# Altium integrated library Molex FFC - FPC Connectors (SMT).IntLib: 638 symbols (part 2 of 20)
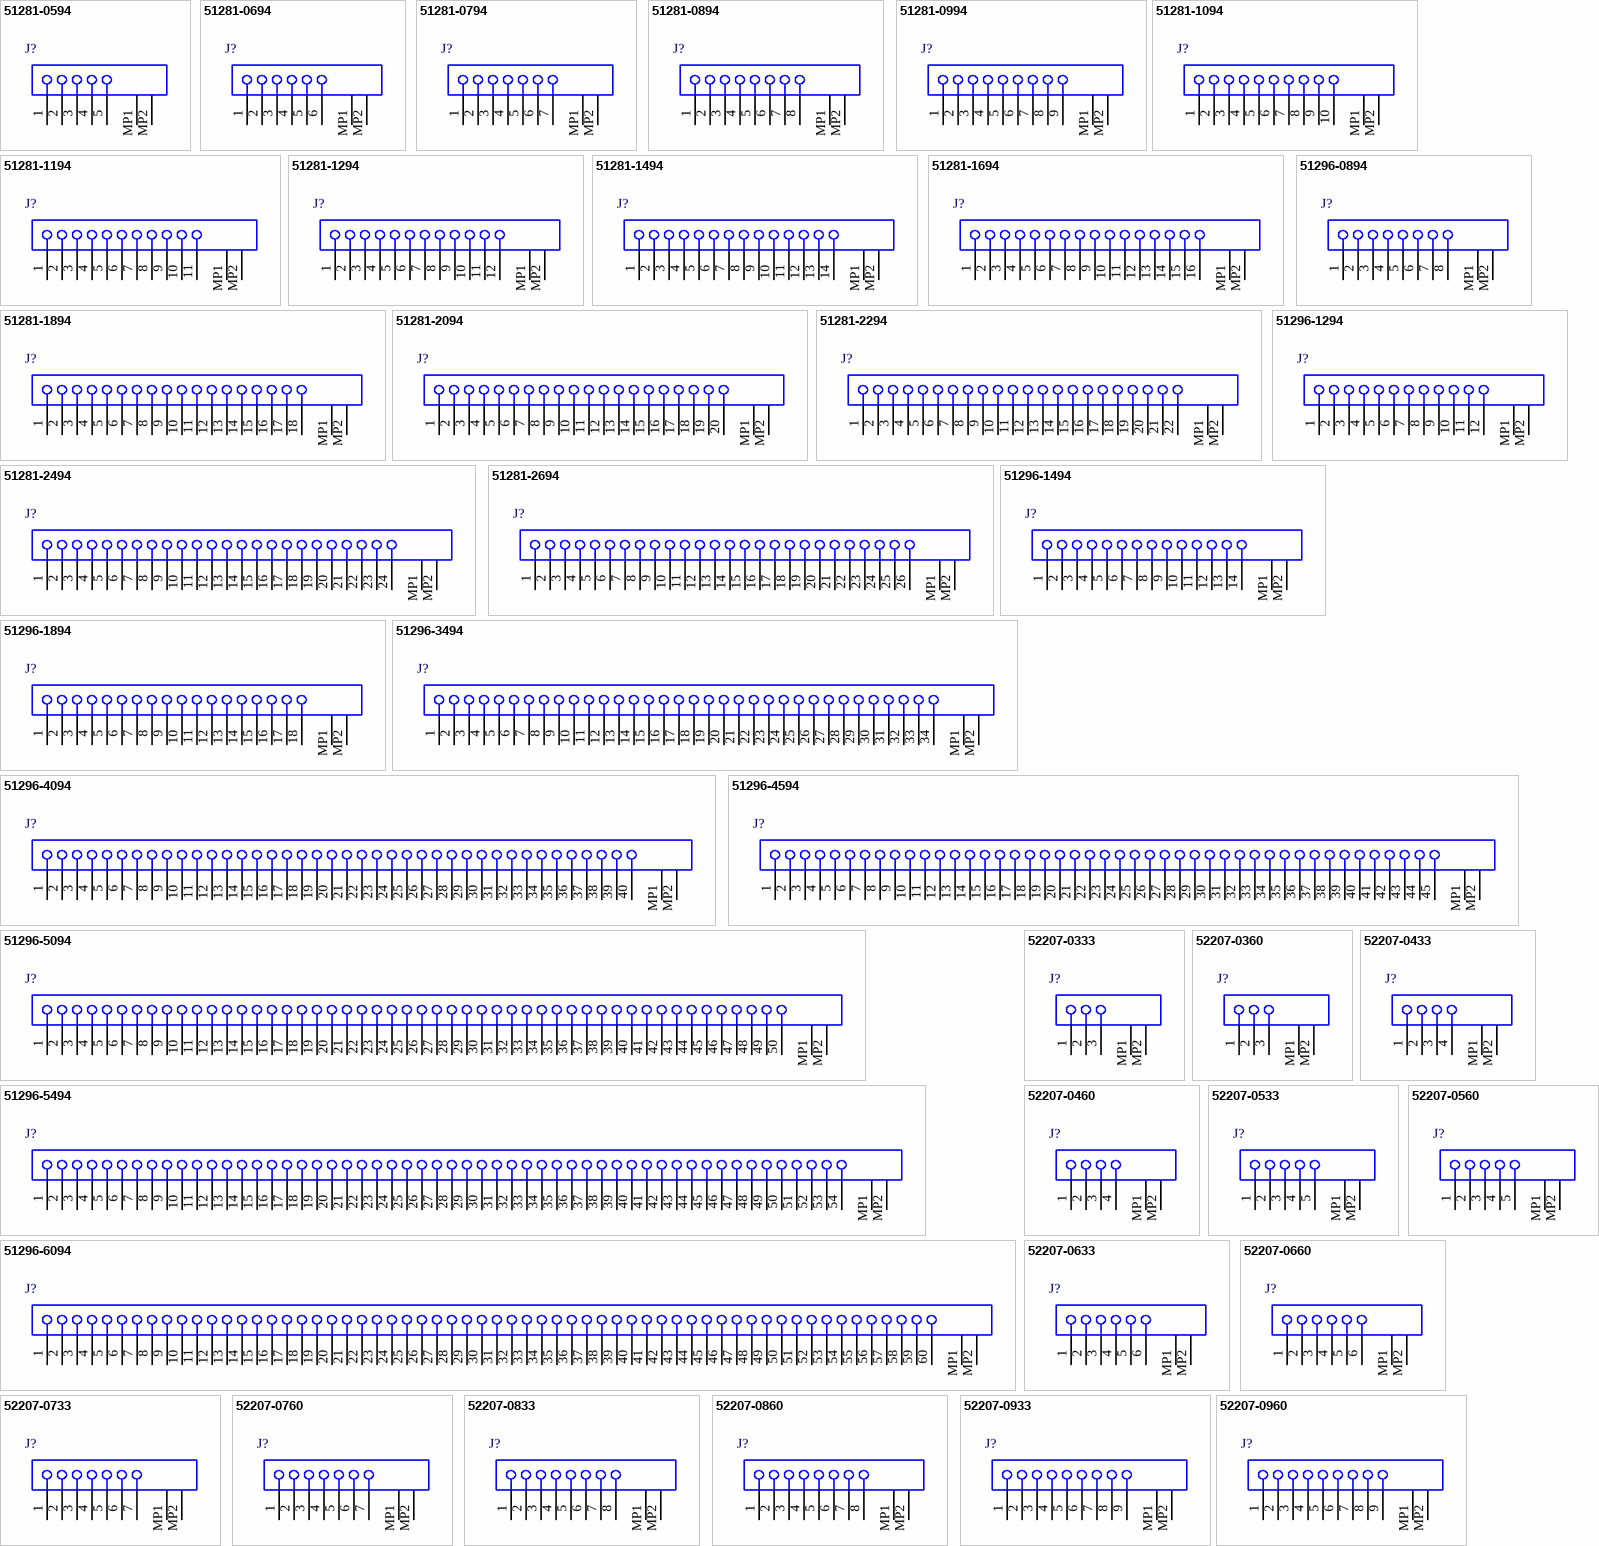
[diagram p22: symbols 51281-0594 to 52207-0960]

## 52207-0760
designator J?
1.0 mm Pitch Easy-On(TM) Type FPC Connector, 2.7 mm Mated Height, Right Angle, ZIF, SMT, Top Contact, 7 Circuits, -30 to 85 degC, ELV and RoHS Compliant, Tape and Reel; Manufacturer: Molex; PartNumber: 52207-0760; Circuits (Loaded): 7; Current (Max per Contact): 1A; Durability (mating cycles max): 30; Entry Angle: 90degrees Angle; Mated Height: 2.70mm; Material - Metal: Phosphor Bronze; Material - Plating Mating: Gold; Material - Plating Termination: Tin; PCB Locator: No; PCB Retention: Yes; Pitch - Mating Interface: 1.00mm; Voltage (Max): 125V; PackageVersion: Rev. F, 03/2007; PackageReference: 52207-0760; PackageDescription: 7-Lead FPC Connector, Pitch 1.0 mm; Contact Position: Top; Number of Rows: 1; Orientation: Right Angle; Packing: Tape and Reel; Pitch - Termination Interface: 1.00mm; Polarized to PCB: Yes; RoHS: TRUE; Stackable: No; Mounting Technology: Surface Mount; ComponentLink1Description: Manufacturer URL; ComponentLink1URL: http://www.molex.com/molex/index.jsp; ComponentLink2Description: Datasheet; ComponentLink2URL: http://www.molex.com/webdocs/datasheets/pdf/en-us/0522070760_FFC_FPC_CONNECTORS.pdf; ComponentLink3Description: Package Specification; ComponentLink3URL: http://www.molex.com/pdm_docs/sd/522070760_sd.pdf
footprint MOLX-52207-0760 (FPC Connector, 7-Leads, Right Angle, Pitch 1.0 mm, Mated Height 2.7 mm, SMT)
pins: 1, 2, 3, 4, 5, 6, 7, MP1, MP2

## 52207-0833
designator J?
1.0 mm Pitch Easy-On(TM) Type FPC Connector, 2.7 mm Mated Height, Right Angle, ZIF, SMT, Top Contact, 8 Circuits, -40 to 85 degC, ELV and RoHS Compliant, Tape and Reel; Manufacturer: Molex; PartNumber: 52207-0833; Circuits (Loaded): 8; Current (Max per Contact): 1A; Durability (mating cycles max): 30; Entry Angle: 90degrees Angle; Mated Height: 2.70mm; Material - Metal: Phosphor Bronze; Material - Plating Mating: Silver, Tin-Bismuth; PCB Locator: No; PCB Retention: Yes; Pitch - Mating Interface: 1.00mm; Voltage (Max): 125V; PackageVersion: Rev. B, 08/2013; PackageReference: 52207-0833; PackageDescription: 8-Lead FPC Connector, Pitch 1.0 mm; Contact Position: Top; Material - Plating Termination: Silver, Tin-Bismuth; Number of Rows: 1; Orientation: Right Angle; Packing: Tape and Reel; Pitch - Termination Interface: 1.00mm; Polarized to PCB: Yes; RoHS: TRUE; Stackable: No; Mounting Technology: Surface Mount; ComponentLink1Description: Manufacturer URL; ComponentLink1URL: http://www.molex.com/molex/index.jsp; ComponentLink2Description: Datasheet; ComponentLink2URL: http://www.molex.com/webdocs/datasheets/pdf/en-us/0522070833_FFC_FPC_CONNECTORS.pdf; ComponentLink3Description: Package Specification; ComponentLink3URL: http://www.molex.com/pdm_docs/sd/522070833_sd.pdf
footprint MOLX-52207-0833 (FPC Connector, 8-Leads, Right Angle, Pitch 1.0 mm, Mated Height 2.7 mm, SMT)
pins: 1, 2, 3, 4, 5, 6, 7, 8, MP1, MP2

## 52207-0860
designator J?
1.0 mm Pitch Easy-On(TM) Type FPC Connector, 2.7 mm Mated Height, Right Angle, ZIF, SMT, Top Contact, 8 Circuits, -30 to 85 degC, ELV and RoHS Compliant, Tape and Reel; Manufacturer: Molex; PartNumber: 52207-0860; Circuits (Loaded): 8; Current (Max per Contact): 1A; Durability (mating cycles max): 30; Entry Angle: 90degrees Angle; Mated Height: 2.70mm; Material - Metal: Phosphor Bronze; Material - Plating Mating: Gold; Material - Plating Termination: Tin; PCB Locator: No; PCB Retention: Yes; Pitch - Mating Interface: 1.00mm; Voltage (Max): 125V; PackageVersion: Rev. F, 03/2007; PackageReference: 52207-0860; PackageDescription: 8-Lead FPC Connector, Pitch 1.0 mm; Contact Position: Top; Number of Rows: 1; Orientation: Right Angle; Packing: Tape and Reel; Pitch - Termination Interface: 1.00mm; Polarized to PCB: Yes; RoHS: TRUE; Stackable: No; Mounting Technology: Surface Mount; ComponentLink1Description: Manufacturer URL; ComponentLink1URL: http://www.molex.com/molex/index.jsp; ComponentLink2Description: Datasheet; ComponentLink2URL: http://www.molex.com/webdocs/datasheets/pdf/en-us/0522070860_FFC_FPC_CONNECTORS.pdf; ComponentLink3Description: Package Specification; ComponentLink3URL: http://www.molex.com/pdm_docs/sd/522070860_sd.pdf
footprint MOLX-52207-0860 (FPC Connector, 8-Leads, Right Angle, Pitch 1.0 mm, Mated Height 2.7 mm, SMT)
pins: 1, 2, 3, 4, 5, 6, 7, 8, MP1, MP2

## 52207-0933
designator J?
1.0 mm Pitch Easy-On(TM) Type FPC Connector, 2.7 mm Mated Height, Right Angle, ZIF, SMT, Top Contact, 9 Circuits, -40 to 85 degC, ELV and RoHS Compliant, Tape and Reel; Manufacturer: Molex; PartNumber: 52207-0933; Circuits (Loaded): 9; Current (Max per Contact): 1A; Durability (mating cycles max): 30; Entry Angle: 90degrees Angle; Mated Height: 2.70mm; Material - Metal: Phosphor Bronze; Material - Plating Mating: Silver, Tin-Bismuth; PCB Locator: No; PCB Retention: Yes; Pitch - Mating Interface: 1.00mm; Voltage (Max): 125V; PackageVersion: Rev. B, 08/2013; PackageReference: 52207-0933; PackageDescription: 9-Lead FPC Connector, Pitch 1.0 mm; Contact Position: Top; Material - Plating Termination: Silver, Tin-Bismuth; Number of Rows: 1; Orientation: Right Angle; Packing: Tape and Reel; Pitch - Termination Interface: 1.00mm; Polarized to PCB: Yes; RoHS: TRUE; Stackable: No; Mounting Technology: Surface Mount; ComponentLink1Description: Manufacturer URL; ComponentLink1URL: http://www.molex.com/molex/index.jsp; ComponentLink2Description: Datasheet; ComponentLink2URL: http://www.molex.com/webdocs/datasheets/pdf/en-us/0522070933_FFC_FPC_CONNECTORS.pdf; ComponentLink3Description: Package Specification; ComponentLink3URL: http://www.molex.com/pdm_docs/sd/522070933_sd.pdf
footprint MOLX-52207-0933 (FPC Connector, 9-Leads, Right Angle, Pitch 1.0 mm, Mated Height 2.7 mm, SMT)
pins: 1, 2, 3, 4, 5, 6, 7, 8, 9, MP1, MP2

## 52207-0960
designator J?
1.0 mm Pitch Easy-On(TM) Type FPC Connector, 2.7 mm Mated Height, Right Angle, ZIF, SMT, Top Contact, 9 Circuits, -30 to 85 degC, ELV and RoHS Compliant, Tape and Reel; Manufacturer: Molex; PartNumber: 52207-0960; Circuits (Loaded): 9; Current (Max per Contact): 1A; Durability (mating cycles max): 30; Entry Angle: 90degrees Angle; Mated Height: 2.70mm; Material - Metal: Phosphor Bronze; Material - Plating Mating: Gold; Material - Plating Termination: Tin; PCB Locator: No; PCB Retention: Yes; Pitch - Mating Interface: 1.00mm; Voltage (Max): 125V; PackageVersion: Rev. F, 03/2007; PackageReference: 52207-0960; PackageDescription: 9-Lead FPC Connector, Pitch 1.0 mm; Contact Position: Top; Number of Rows: 1; Orientation: Right Angle; Packing: Tape and Reel; Pitch - Termination Interface: 1.00mm; Polarized to PCB: Yes; RoHS: TRUE; Stackable: No; Mounting Technology: Surface Mount; ComponentLink1Description: Manufacturer URL; ComponentLink1URL: http://www.molex.com/molex/index.jsp; ComponentLink2Description: Datasheet; ComponentLink2URL: http://www.molex.com/webdocs/datasheets/pdf/en-us/0522070960_FFC_FPC_CONNECTORS.pdf; ComponentLink3Description: Package Specification; ComponentLink3URL: http://www.molex.com/pdm_docs/sd/522070960_sd.pdf
footprint MOLX-52207-0960 (FPC Connector, 9-Leads, Right Angle, Pitch 1.0 mm, Mated Height 2.7 mm, SMT)
pins: 1, 2, 3, 4, 5, 6, 7, 8, 9, MP1, MP2

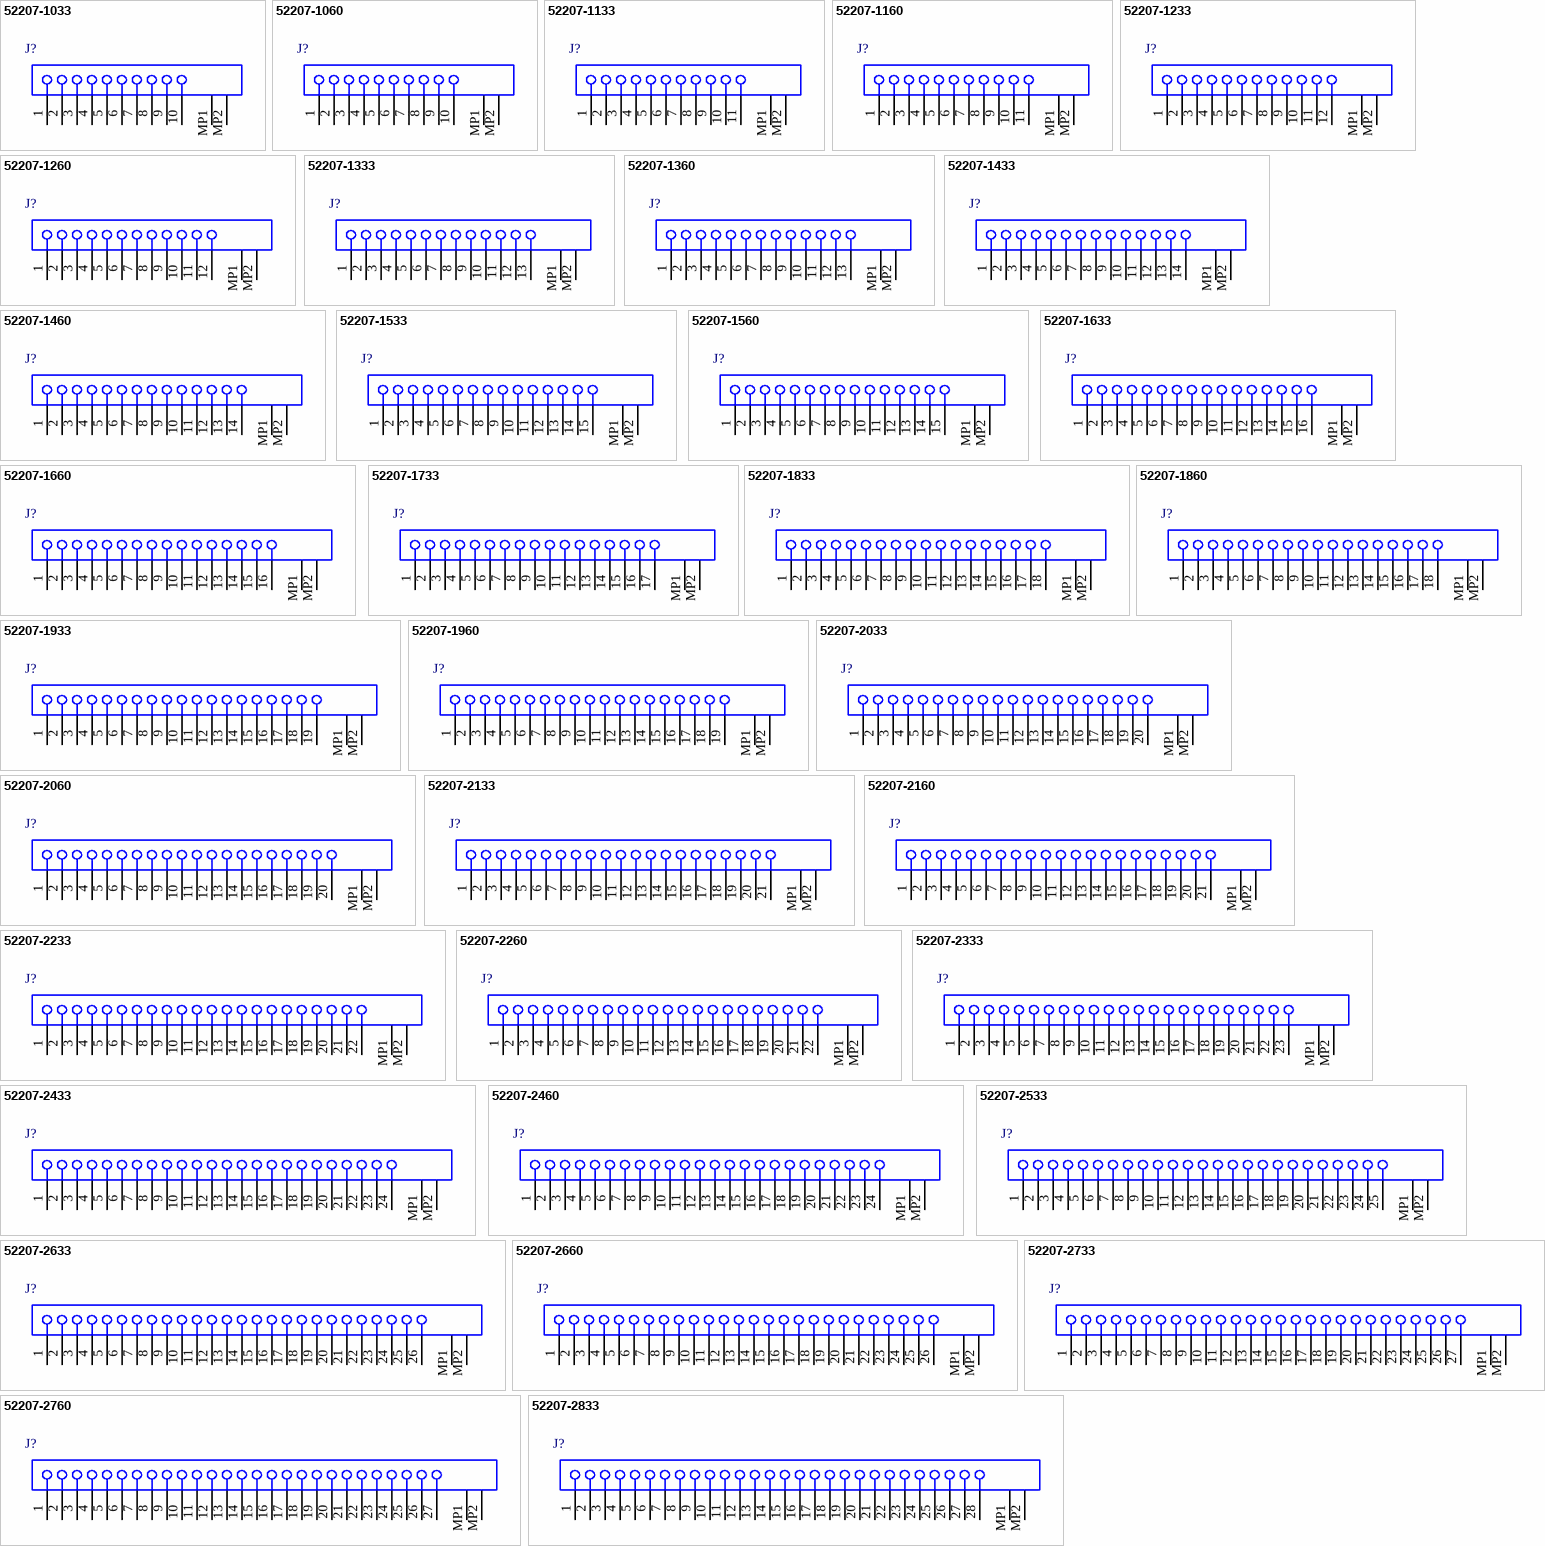
[diagram p1: symbols 52207-1033 to 52207-2833]

## 52207-1033
designator J?
1.0 mm Pitch Easy-On(TM) Type FPC Connector, 2.7 mm Mated Height, Right Angle, ZIF, SMT, Top Contact, 10 Circuits, -40 to 85 degC, ELV and RoHS Compliant, Tape and Reel; Manufacturer: Molex; PartNumber: 52207-1033; Circuits (Loaded): 10; Current (Max per Contact): 1A; Durability (mating cycles max): 30; Entry Angle: 90degrees Angle; Mated Height: 2.70mm; Material - Metal: Phosphor Bronze; Material - Plating Mating: Silver, Tin-Bismuth; PCB Locator: No; PCB Retention: Yes; Pitch - Mating Interface: 1.00mm; Voltage (Max): 125V; PackageVersion: Rev. B, 08/2013; PackageReference: 52207-1033; PackageDescription: 10-Lead FPC Connector, Pitch 1.0 mm; Contact Position: Top; Material - Plating Termination: Silver, Tin-Bismuth; Number of Rows: 1; Orientation: Right Angle; Packing: Tape and Reel; Pitch - Termination Interface: 1.00mm; Polarized to PCB: Yes; RoHS: TRUE; Stackable: No; Mounting Technology: Surface Mount; ComponentLink1Description: Manufacturer URL; ComponentLink1URL: http://www.molex.com/molex/index.jsp; ComponentLink2Description: Datasheet; ComponentLink2URL: http://www.molex.com/webdocs/datasheets/pdf/en-us/0522071033_FFC_FPC_CONNECTORS.pdf; ComponentLink3Description: Package Specification; ComponentLink3URL: http://www.molex.com/pdm_docs/sd/522071033_sd.pdf
footprint MOLX-52207-1033 (FPC Connector, 10-Leads, Right Angle, Pitch 1.0 mm, Mated Height 2.7 mm, SMT)
pins: 1, 2, 3, 4, 5, 6, 7, 8, 9, 10, MP1, MP2

## 52207-1060
designator J?
1.0 mm Pitch Easy-On(TM) Type FPC Connector, 2.7 mm Mated Height, Right Angle, ZIF, SMT, Top Contact, 10 Circuits, -30 to 85 degC, ELV and RoHS Compliant, Tape and Reel; Manufacturer: Molex; PartNumber: 52207-1060; Circuits (Loaded): 10; Current (Max per Contact): 1A; Durability (mating cycles max): 30; Entry Angle: 90degrees Angle; Mated Height: 2.70mm; Material - Metal: Phosphor Bronze; Material - Plating Mating: Gold; Material - Plating Termination: Tin; PCB Locator: No; PCB Retention: Yes; Pitch - Mating Interface: 1.00mm; Voltage (Max): 125V; PackageVersion: Rev. F, 03/2007; PackageReference: 52207-1060; PackageDescription: 10-Lead FPC Connector, Pitch 1.0 mm; Contact Position: Top; Number of Rows: 1; Orientation: Right Angle; Packing: Tape and Reel; Pitch - Termination Interface: 1.00mm; Polarized to PCB: Yes; RoHS: TRUE; Stackable: No; Mounting Technology: Surface Mount; ComponentLink1Description: Manufacturer URL; ComponentLink1URL: http://www.molex.com/molex/index.jsp; ComponentLink2Description: Datasheet; ComponentLink2URL: http://www.molex.com/webdocs/datasheets/pdf/en-us/0522071060_FFC_FPC_CONNECTORS.pdf; ComponentLink3Description: Package Specification; ComponentLink3URL: http://www.molex.com/pdm_docs/sd/522071060_sd.pdf
footprint MOLX-52207-1060 (FPC Connector, 10-Leads, Right Angle, Pitch 1.0 mm, Mated Height 2.7 mm, SMT)
pins: 1, 2, 3, 4, 5, 6, 7, 8, 9, 10, MP1, MP2

## 52207-1133
designator J?
1.0 mm Pitch Easy-On(TM) Type FPC Connector, 2.7 mm Mated Height, Right Angle, ZIF, SMT, Top Contact, 11 Circuits, -40 to 85 degC, ELV and RoHS Compliant, Tape and Reel; Manufacturer: Molex; PartNumber: 52207-1133; Circuits (Loaded): 11; Current (Max per Contact): 1A; Durability (mating cycles max): 30; Entry Angle: 90degrees Angle; Mated Height: 2.70mm; Material - Metal: Phosphor Bronze; Material - Plating Mating: Silver, Tin-Bismuth; PCB Locator: No; PCB Retention: Yes; Pitch - Mating Interface: 1.00mm; Voltage (Max): 125V; PackageVersion: Rev. B, 08/2013; PackageReference: 52207-1133; PackageDescription: 11-Lead FPC Connector, Pitch 1.0 mm; Contact Position: Top; Material - Plating Termination: Silver, Tin-Bismuth; Number of Rows: 1; Orientation: Right Angle; Packing: Tape and Reel; Pitch - Termination Interface: 1.00mm; Polarized to PCB: Yes; RoHS: TRUE; Stackable: No; Mounting Technology: Surface Mount; ComponentLink1Description: Manufacturer URL; ComponentLink1URL: http://www.molex.com/molex/index.jsp; ComponentLink2Description: Datasheet; ComponentLink2URL: http://www.molex.com/webdocs/datasheets/pdf/en-us/0522071133_FFC_FPC_CONNECTORS.pdf; ComponentLink3Description: Package Specification; ComponentLink3URL: http://www.molex.com/pdm_docs/sd/522071133_sd.pdf
footprint MOLX-52207-1133 (FPC Connector, 11-Leads, Right Angle, Pitch 1.0 mm, Mated Height 2.7 mm, SMT)
pins: 1, 2, 3, 4, 5, 6, 7, 8, 9, 10, 11, MP1, MP2

## 52207-1160
designator J?
1.0 mm Pitch Easy-On(TM) Type FPC Connector, 2.7 mm Mated Height, Right Angle, ZIF, SMT, Top Contact, 11 Circuits, -30 to 85 degC, ELV and RoHS Compliant, Tape and Reel; Manufacturer: Molex; PartNumber: 52207-1160; Circuits (Loaded): 11; Current (Max per Contact): 1A; Durability (mating cycles max): 30; Entry Angle: 90degrees Angle; Mated Height: 2.70mm; Material - Metal: Phosphor Bronze; Material - Plating Mating: Gold; Material - Plating Termination: Tin; PCB Locator: No; PCB Retention: Yes; Pitch - Mating Interface: 1.00mm; Voltage (Max): 125V; PackageVersion: Rev. F, 03/2007; PackageReference: 52207-1160; PackageDescription: 11-Lead FPC Connector, Pitch 1.0 mm; Contact Position: Top; Number of Rows: 1; Orientation: Right Angle; Packing: Tape and Reel; Pitch - Termination Interface: 1.00mm; Polarized to PCB: Yes; RoHS: TRUE; Stackable: No; Mounting Technology: Surface Mount; ComponentLink1Description: Manufacturer URL; ComponentLink1URL: http://www.molex.com/molex/index.jsp; ComponentLink2Description: Datasheet; ComponentLink2URL: http://www.molex.com/webdocs/datasheets/pdf/en-us/0522071160_FFC_FPC_CONNECTORS.pdf; ComponentLink3Description: Package Specification; ComponentLink3URL: http://www.molex.com/pdm_docs/sd/522071160_sd.pdf
footprint MOLX-52207-1160 (FPC Connector, 11-Leads, Right Angle, Pitch 1.0 mm, Mated Height 2.7 mm, SMT)
pins: 1, 2, 3, 4, 5, 6, 7, 8, 9, 10, 11, MP1, MP2

## 52207-1233
designator J?
1.0 mm Pitch Easy-On(TM) Type FPC Connector, 2.7 mm Mated Height, Right Angle, ZIF, SMT, Top Contact, 12 Circuits, -40 to 85 degC, ELV and RoHS Compliant, Tape and Reel; Manufacturer: Molex; PartNumber: 52207-1233; Circuits (Loaded): 12; Current (Max per Contact): 1A; Durability (mating cycles max): 30; Entry Angle: 90degrees Angle; Mated Height: 2.70mm; Material - Metal: Phosphor Bronze; Material - Plating Mating: Silver, Tin-Bismuth; PCB Locator: No; PCB Retention: Yes; Pitch - Mating Interface: 1.00mm; Voltage (Max): 125V; PackageVersion: Rev. B, 08/2013; PackageReference: 52207-1233; PackageDescription: 12-Lead FPC Connector, Pitch 1.0 mm; Contact Position: Top; Material - Plating Termination: Silver, Tin-Bismuth; Number of Rows: 1; Orientation: Right Angle; Packing: Tape and Reel; Pitch - Termination Interface: 1.00mm; Polarized to PCB: Yes; RoHS: TRUE; Stackable: No; Mounting Technology: Surface Mount; ComponentLink1Description: Manufacturer URL; ComponentLink1URL: http://www.molex.com/molex/index.jsp; ComponentLink2Description: Datasheet; ComponentLink2URL: http://www.molex.com/webdocs/datasheets/pdf/en-us/0522071233_FFC_FPC_CONNECTORS.pdf; ComponentLink3Description: Package Specification; ComponentLink3URL: http://www.molex.com/pdm_docs/sd/522071233_sd.pdf
footprint MOLX-52207-1233 (FPC Connector, 12-Leads, Right Angle, Pitch 1.0 mm, Mated Height 2.7 mm, SMT)
pins: 1, 2, 3, 4, 5, 6, 7, 8, 9, 10, 11, 12, MP1, MP2

## 52207-1260
designator J?
1.0 mm Pitch Easy-On(TM) Type FPC Connector, 2.7 mm Mated Height, Right Angle, ZIF, SMT, Top Contact, 12 Circuits, -30 to 85 degC, ELV and RoHS Compliant, Tape and Reel; Manufacturer: Molex; PartNumber: 52207-1260; Circuits (Loaded): 12; Current (Max per Contact): 1A; Durability (mating cycles max): 30; Entry Angle: 90degrees Angle; Mated Height: 2.70mm; Material - Metal: Phosphor Bronze; Material - Plating Mating: Gold; Material - Plating Termination: Tin; PCB Locator: No; PCB Retention: Yes; Pitch - Mating Interface: 1.00mm; Voltage (Max): 125V; PackageVersion: Rev. F, 03/2007; PackageReference: 52207-1260; PackageDescription: 12-Lead FPC Connector, Pitch 1.0 mm; Contact Position: Top; Number of Rows: 1; Orientation: Right Angle; Packing: Tape and Reel; Pitch - Termination Interface: 1.00mm; Polarized to PCB: Yes; RoHS: TRUE; Stackable: No; Mounting Technology: Surface Mount; ComponentLink1Description: Manufacturer URL; ComponentLink1URL: http://www.molex.com/molex/index.jsp; ComponentLink2Description: Datasheet; ComponentLink2URL: http://www.molex.com/webdocs/datasheets/pdf/en-us/0522071260_FFC_FPC_CONNECTORS.pdf; ComponentLink3Description: Package Specification; ComponentLink3URL: http://www.molex.com/pdm_docs/sd/522071260_sd.pdf
footprint MOLX-52207-1260 (FPC Connector, 12-Leads, Right Angle, Pitch 1.0 mm, Mated Height 2.7 mm, SMT)
pins: 1, 2, 3, 4, 5, 6, 7, 8, 9, 10, 11, 12, MP1, MP2

## 52207-1333
designator J?
1.0 mm Pitch Easy-On(TM) Type FPC Connector, 2.7 mm Mated Height, Right Angle, ZIF, SMT, Top Contact, 13 Circuits, -40 to 85 degC, ELV and RoHS Compliant, Tape and Reel; Manufacturer: Molex; PartNumber: 52207-1333; Circuits (Loaded): 13; Current (Max per Contact): 1A; Durability (mating cycles max): 30; Entry Angle: 90degrees Angle; Mated Height: 2.70mm; Material - Metal: Phosphor Bronze; Material - Plating Mating: Silver, Tin-Bismuth; PCB Locator: No; PCB Retention: Yes; Pitch - Mating Interface: 1.00mm; Voltage (Max): 125V; PackageVersion: Rev. B, 08/2013; PackageReference: 52207-1333; PackageDescription: 13-Lead FPC Connector, Pitch 1.0 mm; Contact Position: Top; Material - Plating Termination: Silver, Tin-Bismuth; Number of Rows: 1; Orientation: Right Angle; Packing: Tape and Reel; Pitch - Termination Interface: 1.00mm; Polarized to PCB: Yes; RoHS: TRUE; Stackable: No; Mounting Technology: Surface Mount; ComponentLink1Description: Manufacturer URL; ComponentLink1URL: http://www.molex.com/molex/index.jsp; ComponentLink2Description: Datasheet; ComponentLink2URL: http://www.molex.com/webdocs/datasheets/pdf/en-us/0522071333_FFC_FPC_CONNECTORS.pdf; ComponentLink3Description: Package Specification; ComponentLink3URL: http://www.molex.com/pdm_docs/sd/522071333_sd.pdf
footprint MOLX-52207-1333 (FPC Connector, 13-Leads, Right Angle, Pitch 1.0 mm, Mated Height 2.7 mm, SMT)
pins: 1, 2, 3, 4, 5, 6, 7, 8, 9, 10, 11, 12, 13, MP1, MP2

## 52207-1360
designator J?
1.0 mm Pitch Easy-On(TM) Type FPC Connector, 2.7 mm Mated Height, Right Angle, ZIF, SMT, Top Contact, 13 Circuits, -30 to 85 degC, ELV and RoHS Compliant, Tape and Reel; Manufacturer: Molex; PartNumber: 52207-1360; Circuits (Loaded): 13; Current (Max per Contact): 1A; Durability (mating cycles max): 30; Entry Angle: 90degrees Angle; Mated Height: 2.70mm; Material - Metal: Phosphor Bronze; Material - Plating Mating: Gold; Material - Plating Termination: Tin; PCB Locator: No; PCB Retention: Yes; Pitch - Mating Interface: 1.00mm; Voltage (Max): 125V; PackageVersion: Rev. F, 03/2007; PackageReference: 52207-1360; PackageDescription: 13-Lead FPC Connector, Pitch 1.0 mm; Contact Position: Top; Number of Rows: 1; Orientation: Right Angle; Packing: Tape and Reel; Pitch - Termination Interface: 1.00mm; Polarized to PCB: Yes; RoHS: TRUE; Stackable: No; Mounting Technology: Surface Mount; ComponentLink1Description: Manufacturer URL; ComponentLink1URL: http://www.molex.com/molex/index.jsp; ComponentLink2Description: Datasheet; ComponentLink2URL: http://www.molex.com/webdocs/datasheets/pdf/en-us/0522071360_FFC_FPC_CONNECTORS.pdf; ComponentLink3Description: Package Specification; ComponentLink3URL: http://www.molex.com/pdm_docs/sd/522071360_sd.pdf
footprint MOLX-52207-1360 (FPC Connector, 13-Leads, Right Angle, Pitch 1.0 mm, Mated Height 2.7 mm, SMT)
pins: 1, 2, 3, 4, 5, 6, 7, 8, 9, 10, 11, 12, 13, MP1, MP2

## 52207-1433
designator J?
1.0 mm Pitch Easy-On(TM) Type FPC Connector, 2.7 mm Mated Height, Right Angle, ZIF, SMT, Top Contact, 14 Circuits, -40 to 85 degC, ELV and RoHS Compliant, Tape and Reel; Manufacturer: Molex; PartNumber: 52207-1433; Circuits (Loaded): 14; Current (Max per Contact): 1A; Durability (mating cycles max): 30; Entry Angle: 90degrees Angle; Mated Height: 2.70mm; Material - Metal: Phosphor Bronze; Material - Plating Mating: Silver, Tin-Bismuth; PCB Locator: No; PCB Retention: Yes; Pitch - Mating Interface: 1.00mm; Voltage (Max): 125V; PackageVersion: Rev. B, 08/2013; PackageReference: 52207-1433; PackageDescription: 14-Lead FPC Connector, Pitch 1.0 mm; Contact Position: Top; Material - Plating Termination: Silver, Tin-Bismuth; Number of Rows: 1; Orientation: Right Angle; Packing: Tape and Reel; Pitch - Termination Interface: 1.00mm; Polarized to PCB: Yes; RoHS: TRUE; Stackable: No; Mounting Technology: Surface Mount; ComponentLink1Description: Manufacturer URL; ComponentLink1URL: http://www.molex.com/molex/index.jsp; ComponentLink2Description: Datasheet; ComponentLink2URL: http://www.molex.com/webdocs/datasheets/pdf/en-us/0522071433_FFC_FPC_CONNECTORS.pdf; ComponentLink3Description: Package Specification; ComponentLink3URL: http://www.molex.com/pdm_docs/sd/522071433_sd.pdf
footprint MOLX-52207-1433 (FPC Connector, 14-Leads, Right Angle, Pitch 1.0 mm, Mated Height 2.7 mm, SMT)
pins: 1, 2, 3, 4, 5, 6, 7, 8, 9, 10, 11, 12, 13, 14, MP1, MP2

## 52207-1460
designator J?
1.0 mm Pitch Easy-On(TM) Type FPC Connector, 2.7 mm Mated Height, Right Angle, ZIF, SMT, Top Contact, 14 Circuits, -30 to 85 degC, ELV and RoHS Compliant, Tape and Reel; Manufacturer: Molex; PartNumber: 52207-1460; Circuits (Loaded): 14; Current (Max per Contact): 1A; Durability (mating cycles max): 30; Entry Angle: 90degrees Angle; Mated Height: 2.70mm; Material - Metal: Phosphor Bronze; Material - Plating Mating: Gold; Material - Plating Termination: Tin; PCB Locator: No; PCB Retention: Yes; Pitch - Mating Interface: 1.00mm; Voltage (Max): 125V; PackageVersion: Rev. F, 03/2007; PackageReference: 52207-1460; PackageDescription: 14-Lead FPC Connector, Pitch 1.0 mm; Contact Position: Top; Number of Rows: 1; Orientation: Right Angle; Packing: Tape and Reel; Pitch - Termination Interface: 1.00mm; Polarized to PCB: Yes; RoHS: TRUE; Stackable: No; Mounting Technology: Surface Mount; ComponentLink1Description: Manufacturer URL; ComponentLink1URL: http://www.molex.com/molex/index.jsp; ComponentLink2Description: Datasheet; ComponentLink2URL: http://www.molex.com/webdocs/datasheets/pdf/en-us/0522071460_FFC_FPC_CONNECTORS.pdf; ComponentLink3Description: Package Specification; ComponentLink3URL: http://www.molex.com/pdm_docs/sd/522071460_sd.pdf
footprint MOLX-52207-1460 (FPC Connector, 14-Leads, Right Angle, Pitch 1.0 mm, Mated Height 2.7 mm, SMT)
pins: 1, 2, 3, 4, 5, 6, 7, 8, 9, 10, 11, 12, 13, 14, MP1, MP2

## 52207-1533
designator J?
1.0 mm Pitch Easy-On(TM) Type FPC Connector, 2.7 mm Mated Height, Right Angle, ZIF, SMT, Top Contact, 15 Circuits, -40 to 85 degC, ELV and RoHS Compliant, Tape and Reel; Manufacturer: Molex; PartNumber: 52207-1533; Circuits (Loaded): 15; Current (Max per Contact): 1A; Durability (mating cycles max): 30; Entry Angle: 90degrees Angle; Mated Height: 2.70mm; Material - Metal: Phosphor Bronze; Material - Plating Mating: Silver, Tin-Bismuth; PCB Locator: No; PCB Retention: Yes; Pitch - Mating Interface: 1.00mm; Voltage (Max): 125V; PackageVersion: Rev. B, 08/2013; PackageReference: 52207-1533; PackageDescription: 15-Lead FPC Connector, Pitch 1.0 mm; Contact Position: Top; Material - Plating Termination: Silver, Tin-Bismuth; Number of Rows: 1; Orientation: Right Angle; Packing: Tape and Reel; Pitch - Termination Interface: 1.00mm; Polarized to PCB: Yes; RoHS: TRUE; Stackable: No; Mounting Technology: Surface Mount; ComponentLink1Description: Manufacturer URL; ComponentLink1URL: http://www.molex.com/molex/index.jsp; ComponentLink2Description: Datasheet; ComponentLink2URL: http://www.molex.com/webdocs/datasheets/pdf/en-us/0522071533_FFC_FPC_CONNECTORS.pdf; ComponentLink3Description: Package Specification; ComponentLink3URL: http://www.molex.com/pdm_docs/sd/522071533_sd.pdf
footprint MOLX-52207-1533 (FPC Connector, 15-Leads, Right Angle, Pitch 1.0 mm, Mated Height 2.7 mm, SMT)
pins: 1, 2, 3, 4, 5, 6, 7, 8, 9, 10, 11, 12, 13, 14, 15, MP1, MP2

## 52207-1560
designator J?
1.0 mm Pitch Easy-On(TM) Type FPC Connector, 2.7 mm Mated Height, Right Angle, ZIF, SMT, Top Contact, 15 Circuits, -30 to 85 degC, ELV and RoHS Compliant, Tape and Reel; Manufacturer: Molex; PartNumber: 52207-1560; Circuits (Loaded): 15; Current (Max per Contact): 1A; Durability (mating cycles max): 30; Entry Angle: 90degrees Angle; Mated Height: 2.70mm; Material - Metal: Phosphor Bronze; Material - Plating Mating: Gold; Material - Plating Termination: Tin; PCB Locator: No; PCB Retention: Yes; Pitch - Mating Interface: 1.00mm; Voltage (Max): 125V; PackageVersion: Rev. F, 03/2007; PackageReference: 52207-1560; PackageDescription: 15-Lead FPC Connector, Pitch 1.0 mm; Contact Position: Top; Number of Rows: 1; Orientation: Right Angle; Packing: Tape and Reel; Pitch - Termination Interface: 1.00mm; Polarized to PCB: Yes; RoHS: TRUE; Stackable: No; Mounting Technology: Surface Mount; ComponentLink1Description: Manufacturer URL; ComponentLink1URL: http://www.molex.com/molex/index.jsp; ComponentLink2Description: Datasheet; ComponentLink2URL: http://www.molex.com/webdocs/datasheets/pdf/en-us/0522071560_FFC_FPC_CONNECTORS.pdf; ComponentLink3Description: Package Specification; ComponentLink3URL: http://www.molex.com/pdm_docs/sd/522071560_sd.pdf
footprint MOLX-52207-1560 (FPC Connector, 15-Leads, Right Angle, Pitch 1.0 mm, Mated Height 2.7 mm, SMT)
pins: 1, 2, 3, 4, 5, 6, 7, 8, 9, 10, 11, 12, 13, 14, 15, MP1, MP2

## 52207-1633
designator J?
1.0 mm Pitch Easy-On(TM) Type FPC Connector, 2.7 mm Mated Height, Right Angle, ZIF, SMT, Top Contact, 16 Circuits, -40 to 85 degC, ELV and RoHS Compliant, Tape and Reel; Manufacturer: Molex; PartNumber: 52207-1633; Circuits (Loaded): 16; Current (Max per Contact): 1A; Durability (mating cycles max): 30; Entry Angle: 90degrees Angle; Mated Height: 2.70mm; Material - Metal: Phosphor Bronze; Material - Plating Mating: Silver, Tin-Bismuth; PCB Locator: No; PCB Retention: Yes; Pitch - Mating Interface: 1.00mm; Voltage (Max): 125V; PackageVersion: Rev. B, 08/2013; PackageReference: 52207-1633; PackageDescription: 16-Lead FPC Connector, Pitch 1.0 mm; Contact Position: Top; Material - Plating Termination: Silver, Tin-Bismuth; Number of Rows: 1; Orientation: Right Angle; Packing: Tape and Reel; Pitch - Termination Interface: 1.00mm; Polarized to PCB: Yes; RoHS: TRUE; Stackable: No; Mounting Technology: Surface Mount; ComponentLink1Description: Manufacturer URL; ComponentLink1URL: http://www.molex.com/molex/index.jsp; ComponentLink2Description: Datasheet; ComponentLink2URL: http://www.molex.com/webdocs/datasheets/pdf/en-us/0522071633_FFC_FPC_CONNECTORS.pdf; ComponentLink3Description: Package Specification; ComponentLink3URL: http://www.molex.com/pdm_docs/sd/522071633_sd.pdf
footprint MOLX-52207-1633 (FPC Connector, 16-Leads, Right Angle, Pitch 1.0 mm, Mated Height 2.7 mm, SMT)
pins: 1, 2, 3, 4, 5, 6, 7, 8, 9, 10, 11, 12, 13, 14, 15, 16, MP1, MP2

## 52207-1660
designator J?
1.0 mm Pitch Easy-On(TM) Type FPC Connector, 2.7 mm Mated Height, Right Angle, ZIF, SMT, Top Contact, 16 Circuits, -30 to 85 degC, ELV and RoHS Compliant, Tape and Reel; Manufacturer: Molex; PartNumber: 52207-1660; Circuits (Loaded): 16; Current (Max per Contact): 1A; Durability (mating cycles max): 30; Entry Angle: 90degrees Angle; Mated Height: 2.70mm; Material - Metal: Phosphor Bronze; Material - Plating Mating: Gold; Material - Plating Termination: Tin; PCB Locator: No; PCB Retention: Yes; Pitch - Mating Interface: 1.00mm; Voltage (Max): 125V; PackageVersion: Rev. F, 03/2007; PackageReference: 52207-1660; PackageDescription: 16-Lead FPC Connector, Pitch 1.0 mm; Contact Position: Top; Number of Rows: 1; Orientation: Right Angle; Packing: Tape and Reel; Pitch - Termination Interface: 1.00mm; Polarized to PCB: Yes; RoHS: TRUE; Stackable: No; Mounting Technology: Surface Mount; ComponentLink1Description: Manufacturer URL; ComponentLink1URL: http://www.molex.com/molex/index.jsp; ComponentLink2Description: Datasheet; ComponentLink2URL: http://www.molex.com/webdocs/datasheets/pdf/en-us/0522071660_FFC_FPC_CONNECTORS.pdf; ComponentLink3Description: Package Specification; ComponentLink3URL: http://www.molex.com/pdm_docs/sd/522071660_sd.pdf
footprint MOLX-52207-1660 (FPC Connector, 16-Leads, Right Angle, Pitch 1.0 mm, Mated Height 2.7 mm, SMT)
pins: 1, 2, 3, 4, 5, 6, 7, 8, 9, 10, 11, 12, 13, 14, 15, 16, MP1, MP2

## 52207-1733
designator J?
1.0 mm Pitch Easy-On(TM) Type FPC Connector, 2.7 mm Mated Height, Right Angle, ZIF, SMT, Top Contact, 17 Circuits, -40 to 85 degC, ELV and RoHS Compliant, Tape and Reel; Manufacturer: Molex; PartNumber: 52207-1733; Circuits (Loaded): 17; Current (Max per Contact): 1A; Durability (mating cycles max): 30; Entry Angle: 90degrees Angle; Mated Height: 2.70mm; Material - Metal: Phosphor Bronze; Material - Plating Mating: Silver, Tin-Bismuth; PCB Locator: No; PCB Retention: Yes; Pitch - Mating Interface: 1.00mm; Voltage (Max): 125V; PackageVersion: Rev. B, 08/2013; PackageReference: 52207-1733; PackageDescription: 17-Lead FPC Connector, Pitch 1.0 mm; Contact Position: Top; Material - Plating Termination: Silver, Tin-Bismuth; Number of Rows: 1; Orientation: Right Angle; Packing: Tape and Reel; Pitch - Termination Interface: 1.00mm; Polarized to PCB: Yes; RoHS: TRUE; Stackable: No; Mounting Technology: Surface Mount; ComponentLink1Description: Manufacturer URL; ComponentLink1URL: http://www.molex.com/molex/index.jsp; ComponentLink2Description: Datasheet; ComponentLink2URL: http://www.molex.com/webdocs/datasheets/pdf/en-us/0522071733_FFC_FPC_CONNECTORS.pdf; ComponentLink3Description: Package Specification; ComponentLink3URL: http://www.molex.com/pdm_docs/sd/522071733_sd.pdf
footprint MOLX-52207-1733 (FPC Connector, 17-Leads, Right Angle, Pitch 1.0 mm, Mated Height 2.7 mm, SMT)
pins: 1, 2, 3, 4, 5, 6, 7, 8, 9, 10, 11, 12, 13, 14, 15, 16, 17, MP1, MP2

## 52207-1833
designator J?
1.0 mm Pitch Easy-On(TM) Type FPC Connector, 2.7 mm Mated Height, Right Angle, ZIF, SMT, Top Contact, 18 Circuits, -40 to 85 degC, ELV and RoHS Compliant, Tape and Reel; Manufacturer: Molex; PartNumber: 52207-1833; Circuits (Loaded): 18; Current (Max per Contact): 1A; Durability (mating cycles max): 30; Entry Angle: 90degrees Angle; Mated Height: 2.70mm; Material - Metal: Phosphor Bronze; Material - Plating Mating: Silver, Tin-Bismuth; PCB Locator: No; PCB Retention: Yes; Pitch - Mating Interface: 1.00mm; Voltage (Max): 125V; PackageVersion: Rev. B, 08/2013; PackageReference: 52207-1833; PackageDescription: 18-Lead FPC Connector, Pitch 1.0 mm; Contact Position: Top; Material - Plating Termination: Silver, Tin-Bismuth; Number of Rows: 1; Orientation: Right Angle; Packing: Tape and Reel; Pitch - Termination Interface: 1.00mm; Polarized to PCB: Yes; RoHS: TRUE; Stackable: No; Mounting Technology: Surface Mount; ComponentLink1Description: Manufacturer URL; ComponentLink1URL: http://www.molex.com/molex/index.jsp; ComponentLink2Description: Datasheet; ComponentLink2URL: http://www.molex.com/webdocs/datasheets/pdf/en-us/0522071833_FFC_FPC_CONNECTORS.pdf; ComponentLink3Description: Package Specification; ComponentLink3URL: http://www.molex.com/pdm_docs/sd/522071833_sd.pdf
footprint MOLX-52207-1833 (FPC Connector, 18-Leads, Right Angle, Pitch 1.0 mm, Mated Height 2.7 mm, SMT)
pins: 1, 2, 3, 4, 5, 6, 7, 8, 9, 10, 11, 12, 13, 14, 15, 16, 17, 18, MP1, MP2

## 52207-1860
designator J?
1.0 mm Pitch Easy-On(TM) Type FPC Connector, 2.7 mm Mated Height, Right Angle, ZIF, SMT, Top Contact, 18 Circuits, -30 to 85 degC, ELV and RoHS Compliant, Tape and Reel; Manufacturer: Molex; PartNumber: 52207-1860; Circuits (Loaded): 18; Current (Max per Contact): 1A; Durability (mating cycles max): 30; Entry Angle: 90degrees Angle; Mated Height: 2.70mm; Material - Metal: Phosphor Bronze; Material - Plating Mating: Gold; Material - Plating Termination: Tin; PCB Locator: No; PCB Retention: Yes; Pitch - Mating Interface: 1.00mm; Voltage (Max): 125V; PackageVersion: Rev. F, 03/2007; PackageReference: 52207-1860; PackageDescription: 18-Lead FPC Connector, Pitch 1.0 mm; Contact Position: Top; Number of Rows: 1; Orientation: Right Angle; Packing: Tape and Reel; Pitch - Termination Interface: 1.00mm; Polarized to PCB: Yes; RoHS: TRUE; Stackable: No; Mounting Technology: Surface Mount; ComponentLink1Description: Manufacturer URL; ComponentLink1URL: http://www.molex.com/molex/index.jsp; ComponentLink2Description: Datasheet; ComponentLink2URL: http://www.molex.com/webdocs/datasheets/pdf/en-us/0522071860_FFC_FPC_CONNECTORS.pdf; ComponentLink3Description: Package Specification; ComponentLink3URL: http://www.molex.com/pdm_docs/sd/522071860_sd.pdf
footprint MOLX-52207-1860 (FPC Connector, 18-Leads, Right Angle, Pitch 1.0 mm, Mated Height 2.7 mm, SMT)
pins: 1, 2, 3, 4, 5, 6, 7, 8, 9, 10, 11, 12, 13, 14, 15, 16, 17, 18, MP1, MP2

## 52207-1933
designator J?
1.0 mm Pitch Easy-On(TM) Type FPC Connector, 2.7 mm Mated Height, Right Angle, ZIF, SMT, Top Contact, 19 Circuits, -40 to 85 degC, ELV and RoHS Compliant, Tape and Reel; Manufacturer: Molex; PartNumber: 52207-1933; Circuits (Loaded): 19; Current (Max per Contact): 1A; Durability (mating cycles max): 30; Entry Angle: 90degrees Angle; Mated Height: 2.70mm; Material - Metal: Phosphor Bronze; Material - Plating Mating: Silver, Tin-Bismuth; PCB Locator: No; PCB Retention: Yes; Pitch - Mating Interface: 1.00mm; Voltage (Max): 125V; PackageVersion: Rev. B, 08/2013; PackageReference: 52207-1933; PackageDescription: 19-Lead FPC Connector, Pitch 1.0 mm; Contact Position: Top; Material - Plating Termination: Silver, Tin-Bismuth; Number of Rows: 1; Orientation: Right Angle; Packing: Tape and Reel; Pitch - Termination Interface: 1.00mm; Polarized to PCB: Yes; RoHS: TRUE; Stackable: No; Mounting Technology: Surface Mount; ComponentLink1Description: Manufacturer URL; ComponentLink1URL: http://www.molex.com/molex/index.jsp; ComponentLink2Description: Datasheet; ComponentLink2URL: http://www.molex.com/webdocs/datasheets/pdf/en-us/0522071933_FFC_FPC_CONNECTORS.pdf; ComponentLink3Description: Package Specification; ComponentLink3URL: http://www.molex.com/pdm_docs/sd/522071933_sd.pdf
footprint MOLX-52207-1933 (FPC Connector, 19-Leads, Right Angle, Pitch 1.0 mm, Mated Height 2.7 mm, SMT)
pins: 1, 2, 3, 4, 5, 6, 7, 8, 9, 10, 11, 12, 13, 14, 15, 16, 17, 18, 19, MP1, MP2

## 52207-1960
designator J?
1.0 mm Pitch Easy-On(TM) Type FPC Connector, 2.7 mm Mated Height, Right Angle, ZIF, SMT, Top Contact, 19 Circuits, -30 to 85 degC, ELV and RoHS Compliant, Tape and Reel; Manufacturer: Molex; PartNumber: 52207-1960; Circuits (Loaded): 19; Current (Max per Contact): 1A; Durability (mating cycles max): 30; Entry Angle: 90degrees Angle; Mated Height: 2.70mm; Material - Metal: Phosphor Bronze; Material - Plating Mating: Gold; Material - Plating Termination: Tin; PCB Locator: No; PCB Retention: Yes; Pitch - Mating Interface: 1.00mm; Voltage (Max): 125V; PackageVersion: Rev. F, 03/2007; PackageReference: 52207-1960; PackageDescription: 19-Lead FPC Connector, Pitch 1.0 mm; Contact Position: Top; Number of Rows: 1; Orientation: Right Angle; Packing: Tape and Reel; Pitch - Termination Interface: 1.00mm; Polarized to PCB: Yes; RoHS: TRUE; Stackable: No; Mounting Technology: Surface Mount; ComponentLink1Description: Manufacturer URL; ComponentLink1URL: http://www.molex.com/molex/index.jsp; ComponentLink2Description: Datasheet; ComponentLink2URL: http://www.molex.com/webdocs/datasheets/pdf/en-us/0522071960_FFC_FPC_CONNECTORS.pdf; ComponentLink3Description: Package Specification; ComponentLink3URL: http://www.molex.com/pdm_docs/sd/522071960_sd.pdf
footprint MOLX-52207-1960 (FPC Connector, 19-Leads, Right Angle, Pitch 1.0 mm, Mated Height 2.7 mm, SMT)
pins: 1, 2, 3, 4, 5, 6, 7, 8, 9, 10, 11, 12, 13, 14, 15, 16, 17, 18, 19, MP1, MP2

## 52207-2033
designator J?
1.0 mm Pitch Easy-On(TM) Type FPC Connector, 2.7 mm Mated Height, Right Angle, ZIF, SMT, Top Contact, 20 Circuits, -40 to 85 degC, ELV and RoHS Compliant, Tape and Reel; Manufacturer: Molex; PartNumber: 52207-2033; Circuits (Loaded): 20; Current (Max per Contact): 1A; Durability (mating cycles max): 30; Entry Angle: 90degrees Angle; Mated Height: 2.70mm; Material - Metal: Phosphor Bronze; Material - Plating Mating: Silver, Tin-Bismuth; PCB Locator: No; PCB Retention: Yes; Pitch - Mating Interface: 1.00mm; Voltage (Max): 125V; PackageVersion: Rev. B, 08/2013; PackageReference: 52207-2033; PackageDescription: 20-Lead FPC Connector, Pitch 1.0 mm; Contact Position: Top; Material - Plating Termination: Silver, Tin-Bismuth; Number of Rows: 1; Orientation: Right Angle; Packing: Tape and Reel; Pitch - Termination Interface: 1.00mm; Polarized to PCB: Yes; RoHS: TRUE; Stackable: No; Mounting Technology: Surface Mount; ComponentLink1Description: Manufacturer URL; ComponentLink1URL: http://www.molex.com/molex/index.jsp; ComponentLink2Description: Datasheet; ComponentLink2URL: http://www.molex.com/webdocs/datasheets/pdf/en-us/0522072033_FFC_FPC_CONNECTORS.pdf; ComponentLink3Description: Package Specification; ComponentLink3URL: http://www.molex.com/pdm_docs/sd/522072033_sd.pdf
footprint MOLX-52207-2033 (FPC Connector, 20-Leads, Right Angle, Pitch 1.0 mm, Mated Height 2.7 mm, SMT)
pins: 1, 2, 3, 4, 5, 6, 7, 8, 9, 10, 11, 12, 13, 14, 15, 16, 17, 18, 19, 20, MP1, MP2

## 52207-2060
designator J?
1.0 mm Pitch Easy-On(TM) Type FPC Connector, 2.7 mm Mated Height, Right Angle, ZIF, SMT, Top Contact, 20 Circuits, -30 to 85 degC, ELV and RoHS Compliant, Tape and Reel; Manufacturer: Molex; PartNumber: 52207-2060; Circuits (Loaded): 20; Current (Max per Contact): 1A; Durability (mating cycles max): 30; Entry Angle: 90degrees Angle; Mated Height: 2.70mm; Material - Metal: Phosphor Bronze; Material - Plating Mating: Gold; Material - Plating Termination: Tin; PCB Locator: No; PCB Retention: Yes; Pitch - Mating Interface: 1.00mm; Voltage (Max): 125V; PackageVersion: Rev. F, 03/2007; PackageReference: 52207-2060; PackageDescription: 20-Lead FPC Connector, Pitch 1.0 mm; Contact Position: Top; Number of Rows: 1; Orientation: Right Angle; Packing: Tape and Reel; Pitch - Termination Interface: 1.00mm; Polarized to PCB: Yes; RoHS: TRUE; Stackable: No; Mounting Technology: Surface Mount; ComponentLink1Description: Manufacturer URL; ComponentLink1URL: http://www.molex.com/molex/index.jsp; ComponentLink2Description: Datasheet; ComponentLink2URL: http://www.molex.com/webdocs/datasheets/pdf/en-us/0522072060_FFC_FPC_CONNECTORS.pdf; ComponentLink3Description: Package Specification; ComponentLink3URL: http://www.molex.com/pdm_docs/sd/522072060_sd.pdf
footprint MOLX-52207-2060 (FPC Connector, 20-Leads, Right Angle, Pitch 1.0 mm, Mated Height 2.7 mm, SMT)
pins: 1, 2, 3, 4, 5, 6, 7, 8, 9, 10, 11, 12, 13, 14, 15, 16, 17, 18, 19, 20, MP1, MP2

## 52207-2133
designator J?
1.0 mm Pitch Easy-On(TM) Type FPC Connector, 2.7 mm Mated Height, Right Angle, ZIF, SMT, Top Contact, 21 Circuits, -40 to 85 degC, ELV and RoHS Compliant, Tape and Reel; Manufacturer: Molex; PartNumber: 52207-2133; Circuits (Loaded): 21; Current (Max per Contact): 1A; Durability (mating cycles max): 30; Entry Angle: 90degrees Angle; Mated Height: 2.70mm; Material - Metal: Phosphor Bronze; Material - Plating Mating: Silver, Tin-Bismuth; PCB Locator: No; PCB Retention: Yes; Pitch - Mating Interface: 1.00mm; Voltage (Max): 125V; PackageVersion: Rev. B, 08/2013; PackageReference: 52207-2133; PackageDescription: 21-Lead FPC Connector, Pitch 1.0 mm; Contact Position: Top; Material - Plating Termination: Silver, Tin-Bismuth; Number of Rows: 1; Orientation: Right Angle; Packing: Tape and Reel; Pitch - Termination Interface: 1.00mm; Polarized to PCB: Yes; RoHS: TRUE; Stackable: No; Mounting Technology: Surface Mount; ComponentLink1Description: Manufacturer URL; ComponentLink1URL: http://www.molex.com/molex/index.jsp; ComponentLink2Description: Datasheet; ComponentLink2URL: http://www.molex.com/webdocs/datasheets/pdf/en-us/0522072133_FFC_FPC_CONNECTORS.pdf; ComponentLink3Description: Package Specification; ComponentLink3URL: http://www.molex.com/pdm_docs/sd/522072133_sd.pdf
footprint MOLX-52207-2133 (FPC Connector, 21-Leads, Right Angle, Pitch 1.0 mm, Mated Height 2.7 mm, SMT)
pins: 1, 2, 3, 4, 5, 6, 7, 8, 9, 10, 11, 12, 13, 14, 15, 16, 17, 18, 19, 20, 21, MP1, MP2

## 52207-2160
designator J?
1.0 mm Pitch Easy-On(TM) Type FPC Connector, 2.7 mm Mated Height, Right Angle, ZIF, SMT, Top Contact, 21 Circuits, -30 to 85 degC, ELV and RoHS Compliant, Tape and Reel; Manufacturer: Molex; PartNumber: 52207-2160; Circuits (Loaded): 21; Current (Max per Contact): 1A; Durability (mating cycles max): 30; Entry Angle: 90degrees Angle; Mated Height: 2.70mm; Material - Metal: Phosphor Bronze; Material - Plating Mating: Gold; Material - Plating Termination: Tin; PCB Locator: No; PCB Retention: Yes; Pitch - Mating Interface: 1.00mm; Voltage (Max): 125V; PackageVersion: Rev. F, 03/2007; PackageReference: 52207-2160; PackageDescription: 21-Lead FPC Connector, Pitch 1.0 mm; Contact Position: Top; Number of Rows: 1; Orientation: Right Angle; Packing: Tape and Reel; Pitch - Termination Interface: 1.00mm; Polarized to PCB: Yes; RoHS: TRUE; Stackable: No; Mounting Technology: Surface Mount; ComponentLink1Description: Manufacturer URL; ComponentLink1URL: http://www.molex.com/molex/index.jsp; ComponentLink2Description: Datasheet; ComponentLink2URL: http://www.molex.com/webdocs/datasheets/pdf/en-us/0522072160_FFC_FPC_CONNECTORS.pdf; ComponentLink3Description: Package Specification; ComponentLink3URL: http://www.molex.com/pdm_docs/sd/522072160_sd.pdf
footprint MOLX-52207-2160 (FPC Connector, 21-Leads, Right Angle, Pitch 1.0 mm, Mated Height 2.7 mm, SMT)
pins: 1, 2, 3, 4, 5, 6, 7, 8, 9, 10, 11, 12, 13, 14, 15, 16, 17, 18, 19, 20, 21, MP1, MP2

## 52207-2233
designator J?
1.0 mm Pitch Easy-On(TM) Type FPC Connector, 2.7 mm Mated Height, Right Angle, ZIF, SMT, Top Contact, 22 Circuits, -40 to 85 degC, ELV and RoHS Compliant, Tape and Reel; Manufacturer: Molex; PartNumber: 52207-2233; Circuits (Loaded): 22; Current (Max per Contact): 1A; Durability (mating cycles max): 30; Entry Angle: 90degrees Angle; Mated Height: 2.70mm; Material - Metal: Phosphor Bronze; Material - Plating Mating: Silver, Tin-Bismuth; PCB Locator: No; PCB Retention: Yes; Pitch - Mating Interface: 1.00mm; Voltage (Max): 125V; PackageVersion: Rev. B, 08/2013; PackageReference: 52207-2233; PackageDescription: 22-Lead FPC Connector, Pitch 1.0 mm; Contact Position: Top; Material - Plating Termination: Silver, Tin-Bismuth; Number of Rows: 1; Orientation: Right Angle; Packing: Tape and Reel; Pitch - Termination Interface: 1.00mm; Polarized to PCB: Yes; RoHS: TRUE; Stackable: No; Mounting Technology: Surface Mount; ComponentLink1Description: Manufacturer URL; ComponentLink1URL: http://www.molex.com/molex/index.jsp; ComponentLink2Description: Datasheet; ComponentLink2URL: http://www.molex.com/webdocs/datasheets/pdf/en-us/0522072233_FFC_FPC_CONNECTORS.pdf; ComponentLink3Description: Package Specification; ComponentLink3URL: http://www.molex.com/pdm_docs/sd/522072233_sd.pdf
footprint MOLX-52207-2233 (FPC Connector, 22-Leads, Right Angle, Pitch 1.0 mm, Mated Height 2.7 mm, SMT)
pins: 1, 2, 3, 4, 5, 6, 7, 8, 9, 10, 11, 12, 13, 14, 15, 16, 17, 18, 19, 20, 21, 22, MP1, MP2

## 52207-2260
designator J?
1.0 mm Pitch Easy-On(TM) Type FPC Connector, 2.7 mm Mated Height, Right Angle, ZIF, SMT, Top Contact, 22 Circuits, -30 to 85 degC, ELV and RoHS Compliant, Tape and Reel; Manufacturer: Molex; PartNumber: 52207-2260; Circuits (Loaded): 22; Current (Max per Contact): 1A; Durability (mating cycles max): 30; Entry Angle: 90degrees Angle; Mated Height: 2.70mm; Material - Metal: Phosphor Bronze; Material - Plating Mating: Gold; Material - Plating Termination: Tin; PCB Locator: No; PCB Retention: Yes; Pitch - Mating Interface: 1.00mm; Voltage (Max): 125V; PackageVersion: Rev. F, 03/2007; PackageReference: 52207-2260; PackageDescription: 22-Lead FPC Connector, Pitch 1.0 mm; Contact Position: Top; Number of Rows: 1; Orientation: Right Angle; Packing: Tape and Reel; Pitch - Termination Interface: 1.00mm; Polarized to PCB: Yes; RoHS: TRUE; Stackable: No; Mounting Technology: Surface Mount; ComponentLink1Description: Manufacturer URL; ComponentLink1URL: http://www.molex.com/molex/index.jsp; ComponentLink2Description: Datasheet; ComponentLink2URL: http://www.molex.com/webdocs/datasheets/pdf/en-us/0522072260_FFC_FPC_CONNECTORS.pdf; ComponentLink3Description: Package Specification; ComponentLink3URL: http://www.molex.com/pdm_docs/sd/522072260_sd.pdf
footprint MOLX-52207-2260 (FPC Connector, 22-Leads, Right Angle, Pitch 1.0 mm, Mated Height 2.7 mm, SMT)
pins: 1, 2, 3, 4, 5, 6, 7, 8, 9, 10, 11, 12, 13, 14, 15, 16, 17, 18, 19, 20, 21, 22, MP1, MP2

## 52207-2333
designator J?
1.0 mm Pitch Easy-On(TM) Type FPC Connector, 2.7 mm Mated Height, Right Angle, ZIF, SMT, Top Contact, 23 Circuits, -40 to 85 degC, ELV and RoHS Compliant, Tape and Reel; Manufacturer: Molex; PartNumber: 52207-2333; Circuits (Loaded): 23; Current (Max per Contact): 1A; Durability (mating cycles max): 30; Entry Angle: 90degrees Angle; Mated Height: 2.70mm; Material - Metal: Phosphor Bronze; Material - Plating Mating: Silver, Tin-Bismuth; PCB Locator: No; PCB Retention: Yes; Pitch - Mating Interface: 1.00mm; Voltage (Max): 125V; PackageVersion: Rev. B, 08/2013; PackageReference: 52207-2333; PackageDescription: 23-Lead FPC Connector, Pitch 1.0 mm; Contact Position: Top; Material - Plating Termination: Silver, Tin-Bismuth; Number of Rows: 1; Orientation: Right Angle; Packing: Tape and Reel; Pitch - Termination Interface: 1.00mm; Polarized to PCB: Yes; RoHS: TRUE; Stackable: No; Mounting Technology: Surface Mount; ComponentLink1Description: Manufacturer URL; ComponentLink1URL: http://www.molex.com/molex/index.jsp; ComponentLink2Description: Datasheet; ComponentLink2URL: http://www.molex.com/webdocs/datasheets/pdf/en-us/0522072333_FFC_FPC_CONNECTORS.pdf; ComponentLink3Description: Package Specification; ComponentLink3URL: http://www.molex.com/pdm_docs/sd/522072333_sd.pdf
footprint MOLX-52207-2333 (FPC Connector, 23-Leads, Right Angle, Pitch 1.0 mm, Mated Height 2.7 mm, SMT)
pins: 1, 2, 3, 4, 5, 6, 7, 8, 9, 10, 11, 12, 13, 14, 15, 16, 17, 18, 19, 20, 21, 22, 23, MP1, MP2

## 52207-2433
designator J?
1.0 mm Pitch Easy-On(TM) Type FPC Connector, 2.7 mm Mated Height, Right Angle, ZIF, SMT, Top Contact, 24 Circuits, -40 to 85 degC, ELV and RoHS Compliant, Tape and Reel; Manufacturer: Molex; PartNumber: 52207-2433; Circuits (Loaded): 24; Current (Max per Contact): 1A; Durability (mating cycles max): 30; Entry Angle: 90degrees Angle; Mated Height: 2.70mm; Material - Metal: Phosphor Bronze; Material - Plating Mating: Silver, Tin-Bismuth; PCB Locator: No; PCB Retention: Yes; Pitch - Mating Interface: 1.00mm; Voltage (Max): 125V; PackageVersion: Rev. B, 08/2013; PackageReference: 52207-2433; PackageDescription: 24-Lead FPC Connector, Pitch 1.0 mm; Contact Position: Top; Material - Plating Termination: Silver, Tin-Bismuth; Number of Rows: 1; Orientation: Right Angle; Packing: Tape and Reel; Pitch - Termination Interface: 1.00mm; Polarized to PCB: Yes; RoHS: TRUE; Stackable: No; Mounting Technology: Surface Mount; ComponentLink1Description: Manufacturer URL; ComponentLink1URL: http://www.molex.com/molex/index.jsp; ComponentLink2Description: Datasheet; ComponentLink2URL: http://www.molex.com/webdocs/datasheets/pdf/en-us/0522072433_FFC_FPC_CONNECTORS.pdf; ComponentLink3Description: Package Specification; ComponentLink3URL: http://www.molex.com/pdm_docs/sd/522072433_sd.pdf
footprint MOLX-52207-2433 (FPC Connector, 24-Leads, Right Angle, Pitch 1.0 mm, Mated Height 2.7 mm, SMT)
pins: 1, 2, 3, 4, 5, 6, 7, 8, 9, 10, 11, 12, 13, 14, 15, 16, 17, 18, 19, 20, 21, 22, 23, 24, MP1, MP2

## 52207-2460
designator J?
1.0 mm Pitch Easy-On(TM) Type FPC Connector, 2.7 mm Mated Height, Right Angle, ZIF, SMT, Top Contact, 24 Circuits, -30 to 85 degC, ELV and RoHS Compliant, Tape and Reel; Manufacturer: Molex; PartNumber: 52207-2460; Circuits (Loaded): 24; Current (Max per Contact): 1A; Durability (mating cycles max): 30; Entry Angle: 90degrees Angle; Mated Height: 2.70mm; Material - Metal: Phosphor Bronze; Material - Plating Mating: Gold; Material - Plating Termination: Tin; PCB Locator: No; PCB Retention: Yes; Pitch - Mating Interface: 1.00mm; Voltage (Max): 125V; PackageVersion: Rev. F, 03/2007; PackageReference: 52207-2460; PackageDescription: 24-Lead FPC Connector, Pitch 1.0 mm; Contact Position: Top; Number of Rows: 1; Orientation: Right Angle; Packing: Tape and Reel; Pitch - Termination Interface: 1.00mm; Polarized to PCB: Yes; RoHS: TRUE; Stackable: No; Mounting Technology: Surface Mount; ComponentLink1Description: Manufacturer URL; ComponentLink1URL: http://www.molex.com/molex/index.jsp; ComponentLink2Description: Datasheet; ComponentLink2URL: http://www.molex.com/webdocs/datasheets/pdf/en-us/0522072460_FFC_FPC_CONNECTORS.pdf; ComponentLink3Description: Package Specification; ComponentLink3URL: http://www.molex.com/pdm_docs/sd/522072460_sd.pdf
footprint MOLX-52207-2460 (FPC Connector, 24-Leads, Right Angle, Pitch 1.0 mm, Mated Height 2.7 mm, SMT)
pins: 1, 2, 3, 4, 5, 6, 7, 8, 9, 10, 11, 12, 13, 14, 15, 16, 17, 18, 19, 20, 21, 22, 23, 24, MP1, MP2